# EAGLE library part NCS199 (library on-semi)
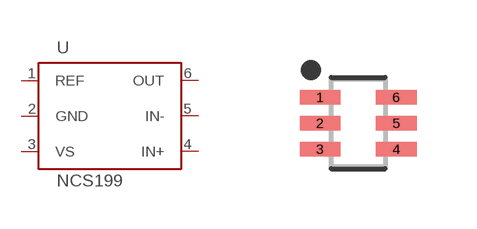
[diagram p2: symbol with the pads of SOT65P210X110-6; footprint SOT65P210X110-6]

Designator prefix -

## NCS199  [SOT65P210X110-6]
1  REF  pwr
2  GND  pwr
3  VS  pwr
4  IN+  pas
5  IN-  pas
6  OUT  pas

## Footprint SOT65P210X110-6 (pad centres in mm)
6-SOT23, 0.65 mm pitch, 2.10 mm span, 2.00 X 1.25 X 1.10 mm body 6-pin SOT23 package with 0.65 mm pitch, 2.10 mm span with body size 2.00 X 1.25 X 1.10 mm
smd 1.02 x 0.36: 1 -0.955,0.65; 2 -0.955,0; 3 -0.955,-0.65; 4 0.955,-0.65; 5 0.955,0; 6 0.955,0.65